# EAGLE library part SJ1-353XNS_3MM5-STEREO-AUDIO-JACKS (library df4iah_connector)
SJ1-353XNS_3MM5-STEREO-AUDIO-JACKS
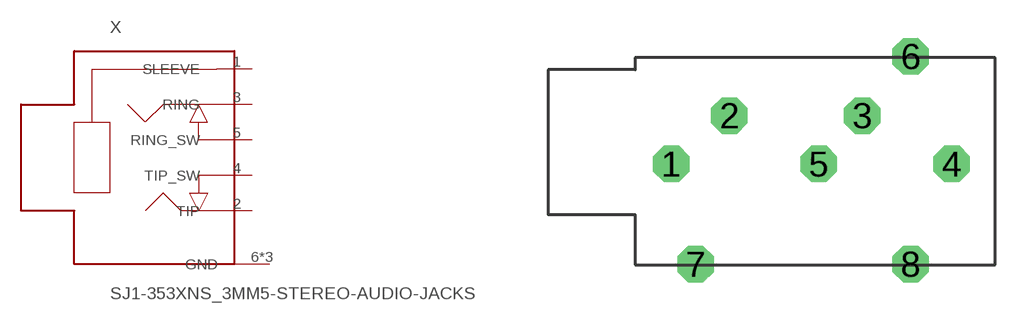
[diagram p19: symbol with the pads of SJ1-353XNS_3MM5-STEREO-AUDIO-JACKS; footprint SJ1-353XNS_3MM5-STEREO-AUDIO-JACKS]

Designator prefix X

## SJ1-353XNS_3MM5-STEREO-AUDIO-JACKS  [SJ1-353XNS_3MM5-STEREO-AUDIO-JACKS]
1  SLEEVE  pas
2  TIP  pas
3  RING  pas
4  TIP_SW  pas
5  RING_SW  pas
6  GND  pas
7  GND  pas
8  GND  pas

## Footprint SJ1-353XNS_3MM5-STEREO-AUDIO-JACKS (pad centres in mm)
SJ1-353XNS_3MM5-STEREO-AUDIO-JACKS
drill 1 octagon: 1 -4.532,-0.9; 2 -2.132,1.1; 3 3.368,1.1; 4 7.067,-0.9; 5 1.567,-0.9; 6 5.367,3.55; 7 -3.533,-5.05; 8 5.367,-5.05